# Altium schematic symbol library NTB0104UK,012.SchLib: 1 symbol
Pins are listed as number, name and electrical type; pins without a type are passive.

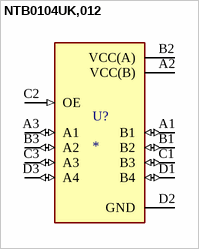
[diagram p0: symbol NTB0104UK,012]

## NTB0104UK,012
designator U?
NTB0104 - Dual supply translating transceiver; auto direction sensing; 3-state; MF: {'manufacturer': u'NXP USA'}; MP: NTB0104UK,012; Price: None; Availability: Unavailable; Value: *; Package: None
footprint BGA12N40P4X3_160X120X61N
pins: A1 B1 (io), A2 VCC(B) (power), A3 A1 (io), B1 B2 (io), B2 VCC(A) (power), B3 A2 (io), C1 B3 (io), C2 OE (in), C3 A3 (io), D1 B4 (io), D2 GND (power), D3 A4 (io)